# EAGLE library part 690_368_17_12_7 (library SHC)
MM FEMALE ANGLED CONNECTOR WITH POLARIZATION WITHOUT LATCH
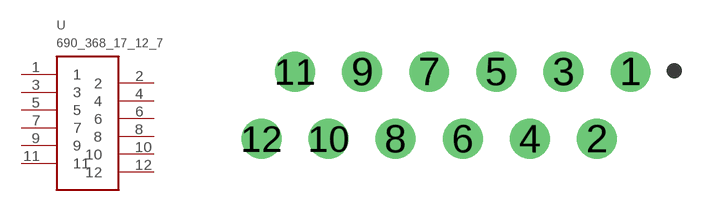
[diagram p22: symbol with the pads of 690_368_17_12_7; footprint 690_368_17_12_7]

Designator prefix -

## 690_368_17_12_7  [690_368_17_12_7]
1  1
2  2
3  3
4  4
5  5
6  6
7  7
8  8
9  9
10  10
11  11
12  12

## Footprint 690_368_17_12_7 (pad centres in mm)
drill 1: 1 7.62,1.27; 2 6.35,-1.27; 3 5.08,1.27; 4 3.81,-1.27; 5 2.54,1.27; 6 1.27,-1.27; 7 0,1.27; 8 -1.27,-1.27; 9 -2.54,1.27; 10 -3.81,-1.27; 11 -5.08,1.27; 12 -6.35,-1.27